# EAGLE library part WURTH_CONNECTORS_WR-PHD_6200XX21121_62004021121 (library Local Compute Module)
WR-PHD 2.00 mm THT Dual Pin Header ARTICLE PROPERTIES: Pins:4;​ 6;​ 8;​ 10;​ 16;​ 20;​ 24;​ 28;​ 32;​ 40;​ 44 KIND PROPERTIES: Pitch：2 mm Quality Class:3 as per CECC 75 301-802 Rows：Dual Gender：Pin Header Type：Straight MATERIAL PROPERTIES: Insulator Material :PA9T Insulator Flammability Rating:UL94 V-0 Contact Material:Copper Alloy Contact Plating:Gold Contact Type:Stamped GENERAL INFORMATION Operating Temperature:-40 up to +105 °C Compliance:Lead free / RoHS ELECTRICAL PROPERTIES: Rated Current:max. IR 1:2A Withstanding Voltage:500 V (AC) Contact Resistance:20 mΩ RISO:1000 MΩ CERTIFICATION UL Approval:E323964 PACKAGING PROPERTIES Packaging:Bag Packaging Unit:1000;​ 500;​ 300;​ 200 <https://katalog.we-online.com/media/images/v2/o57938v209%20Family_WR-PHD_Dual_Pin_Header_6200xx21121.jpg> Details see: https://katalog.we-online.com/en/em/PHD_2_00_THT_DUAL_PIN_HEADER_6200XX21121 Updated by Yingchun,Shan 2019-10-24 2019 (C) Würth Elektronik
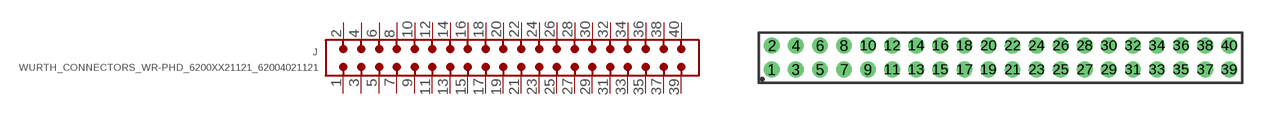
[diagram p22: symbol with the pads of WURTH_CONNECTORS_WR-PHD_62004021121; footprint WURTH_CONNECTORS_WR-PHD_62004021121]

Designator prefix J

## WURTH_CONNECTORS_WR-PHD_6200XX21121_62004021121 (DIGIKEY: 732-5310-ND; MANUFACTURE: Wurth Elektronik; MPN: 62004021121)  [WURTH_CONNECTORS_WR-PHD_62004021121]
1  1  pas
2  2  pas
3  3  pas
4  4  pas
5  5  pas
6  6  pas
7  7  pas
8  8  pas
9  9  pas
10  10  pas
11  11  pas
12  12  pas
13  13  pas
14  14  pas
15  15  pas
16  16  pas
17  17  pas
18  18  pas
19  19  pas
20  20  pas
21  21  pas
22  22  pas
23  23  pas
24  24  pas
25  25  pas
26  26  pas
27  27  pas
28  28  pas
29  29  pas
30  30  pas
31  31  pas
32  32  pas
33  33  pas
34  34  pas
35  35  pas
36  36  pas
37  37  pas
38  38  pas
39  39  pas
40  40  pas

## Footprint WURTH_CONNECTORS_WR-PHD_62004021121 (pad centres in mm)
WR-PHD 2.00 mm THT Dual Pin Header, 40 Pins
drill 0.8: 1 -19,-1; 2 -19,1; 3 -17,-1; 4 -17,1; 5 -15,-1; 6 -15,1; 7 -13,-1; 8 -13,1; 9 -11,-1; 10 -11,1; 11 -9,-1; 12 -9,1; 13 -7,-1; 14 -7,1; 15 -5,-1; 16 -5,1; 17 -3,-1; 18 -3,1; 19 -1,-1; 20 -1,1; 21 1,-1; 22 1,1; 23 3,-1; 24 3,1; 25 5,-1; 26 5,1; 27 7,-1; 28 7,1; 29 9,-1; 30 9,1; 31 11,-1; 32 11,1; 33 13,-1; 34 13,1; 35 15,-1; 36 15,1; 37 17,-1; 38 17,1; 39 19,-1; 40 19,1